# Altium footprint library Nexperia-SOT23-3.PcbLib: 1 footprints
Each footprint in its own frame and in the unit in brackets; x right, y up, seen from the top. Pads: shape width x height; smd on the part's side, far side on the other; paste and mask are expansions set on the pad; w line width, h text height; cw(c..) or ccw(c..) is an arc to the next point about the centre after c.
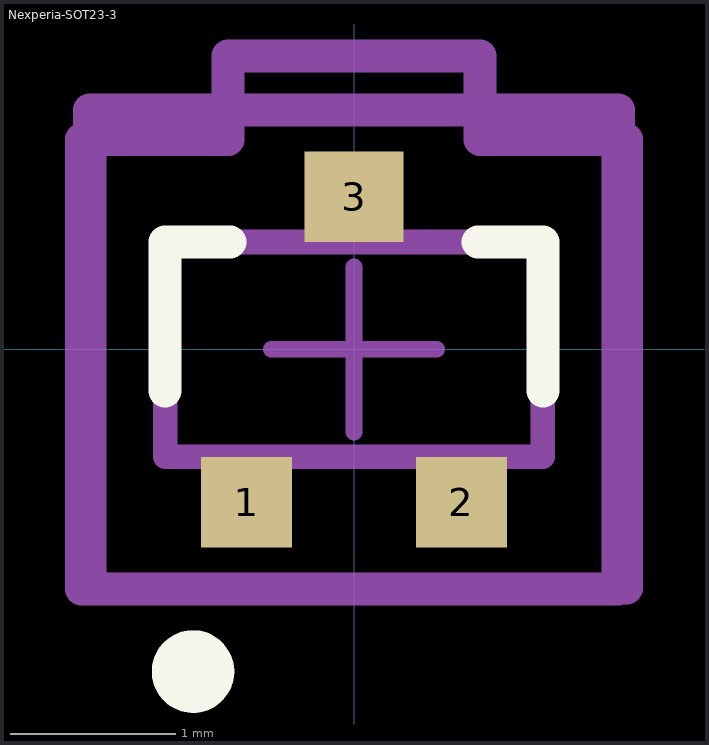
[diagram p0: the footprint, top view; thin cyan lines are the x and y axes]

## Nexperia-SOT23-3 [mm]
pads (3):
  rect 0.55x0.55 smd: 1(-0.65,-0.925) 2(0.65,-0.925)
  rect 0.6x0.55 smd: 3(0,0.925)
Top Overlay:
  circle w0.25: c-0.975,-1.95 r0.125
  lines w0.2: -1.143,-0.25 -1.143,0.65 -0.75,0.65 ; 0.75,0.65 1.143,0.65 1.143,-0.25
Mechanical 10:
  lines w0.2: -1.6,-1.45 1.6,-1.45 1.6,1.45 -1.6,1.45 -1.6,-1.45
  text ".Designator" at 0,0 h1
Mechanical 12:
  lines w0.15: -1.143,-0.65 1.143,-0.65 1.143,0.65 -1.143,0.65 -1.143,-0.65
Mechanical 15:
  lines w0.1: -0.5,0 0.5,0 ; -0.435,0 0.435,0 ; 0,-0.5 0,0.5 ; 0,-0.435 0,0.435
  lines w0.2: -1.651,-1.45 1.6,-1.45 ; -1.651,-1.445 -1.651,1.255 ; -1.651,1.27 -0.762,1.27 ; -0.762,1.289 -0.762,1.778 0.738,1.778 ; 0.762,1.27 1.651,1.27 ; 0.762,1.289 0.762,1.778 ; 1.651,-1.445 1.651,1.255
3D body "PESD1CAN-UX.STEP": height 1.1, standoff 0, extent -1,-1.05 1,1.05